# Altium schematic symbol library HEADER-6x1.SchLib: 2 symbols
Pins are listed as number, name and electrical type; pins without a type are passive.

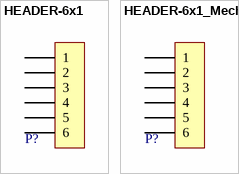
[diagram p0: symbols HEADER-6x1 to HEADER-6x1_Mech]

## HEADER-6x1
designator P?
pins: 1, 2, 3, 4, 5, 6

## HEADER-6x1_Mech
designator P?  (mechanical)
pins: 1, 2, 3, 4, 5, 6